# Altium footprint library ESP8266_boards.PcbLib: 1 footprints
Each footprint in its own frame and in the unit in brackets; x right, y up, seen from the top. Pads: shape width x height; smd on the part's side, far side on the other; paste and mask are expansions set on the pad; w line width, h text height; cw(c..) or ccw(c..) is an arc to the next point about the centre after c.
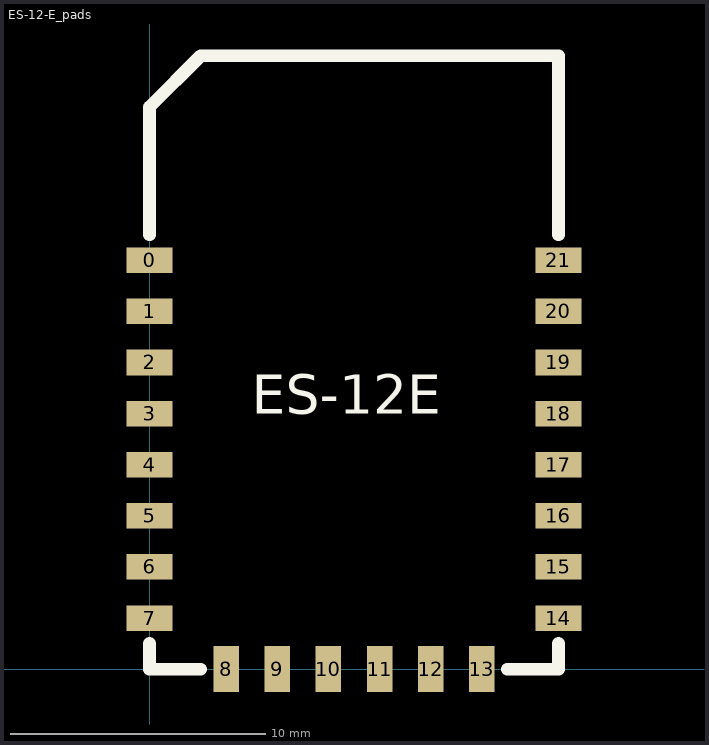
[diagram p0: the footprint, top view; thin cyan lines are the x and y axes]

## ES-12-E_pads [mm]
height 1
pads (22):
  rect 1.8x1 smd: 0(0,16) 1(0,14) 2(0,12) 3(0,10) 4(0,8) 5(0,6) 6(0,4) 7(0,2) 14(16,2) 15(16,4) 16(16,6) 17(16,8) 18(16,10) 19(16,12) 20(16,14) 21(16,16)
  rect 1x1.8 smd: 8(3,0) 9(5,0) 10(7,0) 11(9,0) 12(11,0) 13(13,0)
Top Overlay:
  lines w0.5: 0,1 0,0 2,0 ; 0,17 0,22 2,24 16,24 16,17 ; 14,0 16,0 16,1
  text "ES-12E" at 4,10 h1.52